# Altium footprint library VQFN-20_0.PcbLib: 1 footprints
Each footprint in its own frame and in the unit in brackets; x right, y up, seen from the top. Pads: shape width x height; smd on the part's side, far side on the other; paste and mask are expansions set on the pad; w line width, h text height; cw(c..) or ccw(c..) is an arc to the next point about the centre after c.
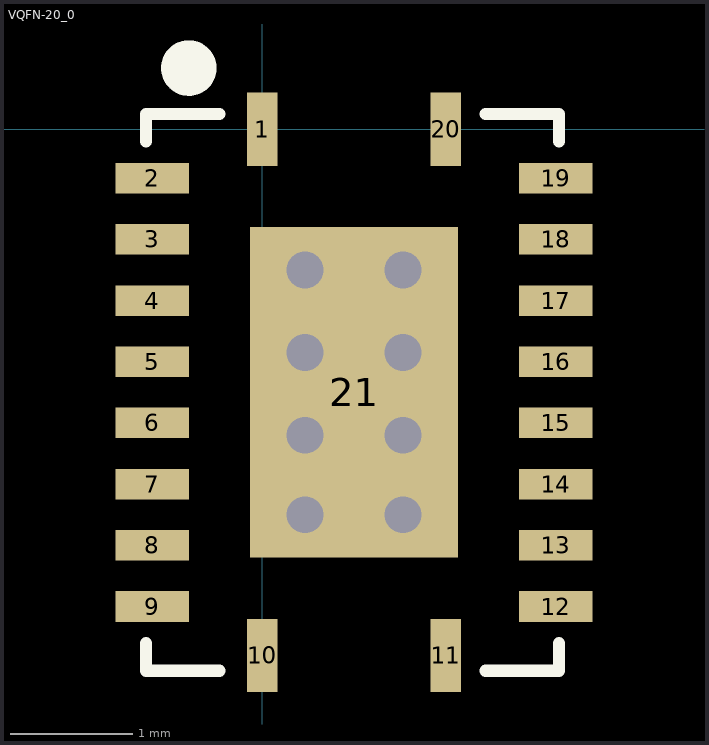
[diagram p0: the footprint, top view; thin cyan lines are the x and y axes]

## VQFN-20_0 [mm]
pads (21):
  rect 0.25x0.6 smd mask+0.07: 1(0,0) 10(0,-4.3) 11(1.5,-4.3) 20(1.5,0)
  rect 0.6x0.25 smd mask+0.07: 2(-0.9,-0.4) 3(-0.9,-0.9) 4(-0.9,-1.4) 5(-0.9,-1.9) 6(-0.9,-2.4) 7(-0.9,-2.9) 8(-0.9,-3.4) 9(-0.9,-3.9) 12(2.4,-3.9) 13(2.4,-3.4) 14(2.4,-2.9) 15(2.4,-2.4) 16(2.4,-1.9) 17(2.4,-1.4) 18(2.4,-0.9) 19(2.4,-0.4)
  rect 1.7x2.7 smd mask+0.07: 21(0.75,-2.15)
via 0.35,-1.15 diameter 0.55 hole 0.3
via 0.35,-1.825 diameter 0.55 hole 0.3
via 0.35,-2.5 diameter 0.55 hole 0.3
via 1.15,-3.15 diameter 0.55 hole 0.3
via 0.35,-3.15 diameter 0.55 hole 0.3
via 1.15,-2.5 diameter 0.55 hole 0.3
via 1.15,-1.825 diameter 0.55 hole 0.3
via 1.15,-1.15 diameter 0.55 hole 0.3
Top Overlay:
  circle w0.254: c-0.6,0.5 r0.1
  lines w0.1: -0.95,-4.2 -0.95,-4.425 -0.35,-4.425 ; -0.95,-0.1 -0.95,0.125 -0.35,0.125 ; 1.825,-4.425 2.425,-4.425 2.425,-4.2 ; 1.825,0.125 2.425,0.125 2.425,-0.1